# Altium schematic symbol library relays.SchLib: 16 symbols
Pins are listed as number, name and electrical type; pins without a type are passive.

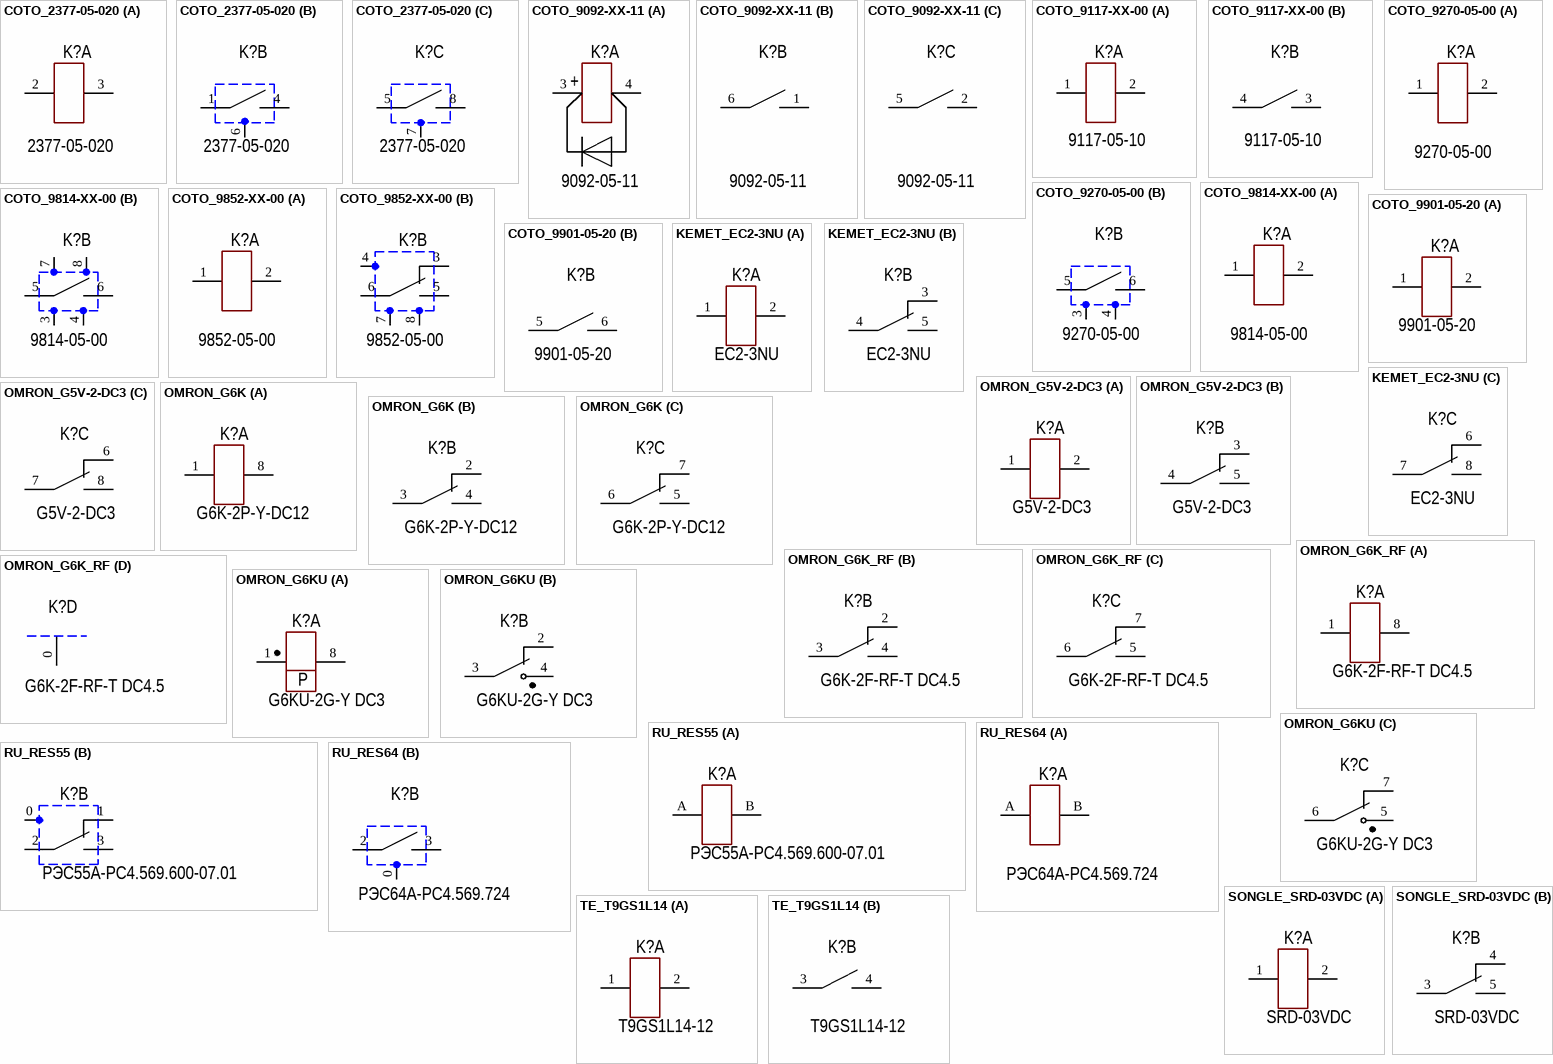
[diagram p0: symbols COTO_2377-05-020 to TE_T9GS1L14]

## COTO_2377-05-020
designator K?  PartNumber: 2377-05-020
0.5A/200VDC, DPST (2 Form A) Reed Relay, Coaxial Shield, 2370 Series; Manufacturer: Coto Technology; ValueManufacturerPartNumber: Reed Relays, 5VDC, 200VAC, 500mA, 2 Form A (DPST-NO), -40...+125°C; TypeRelay: Reed Relays; VoltageMax: 200VAC; VoltageControlCoil: 5VDC; MaxCurrent: 500mA; Package: 2 Form A (DPST-NO); HelpURL: https://eu.mouser.com/ProductDetail/Coto-Technology/2377-05-020?qs=zQ0xp2egA5ZJU1drR29UGg%3D%3D; Temperature: -40...+125°C
footprint COTO_2377-05-020 (8 Leads DPST (2 Form A) Reed Relay, Coaxial Shield, 2370 Series)
part A pins: 2, 3
part B pins: 1, 4, 6
part C pins: 5, 7, 8

## COTO_9092-XX-11
designator K?  PartNumber: 9092-05-11
SPDT (2 Form A (NO)) Reed Relay, For Stacking On 0.2Inches Pitch, 107 Serie; Manufacturer: Coto Technology; ValueManufacturerPartNumber: Electromechanics relay, 5VDC, 200VAC, 500mA, 2 Form A (DPST-NO), -20...+85°C; TypeRelay: Electromechanics relay; VoltageMax: 200VAC; VoltageControlCoil: 5VDC; MaxCurrent: 500mA; Package: 2 Form A (DPST-NO); HelpURL: https://eu.mouser.com/ProductDetail/Coto-Technology/9092-05-11?qs=%252B2t8avA00rvTKCknwKcV8A%3D%3D; Temperature: -20...+85°C
footprint COTO_9092 (6 Leads, SPDT (2 Form A) Reed Relays, Body 11.24mm x 3.81mm)
part A pins: 3, 4
part B pins: 1, 6
part C pins: 2, 5
part A text: +

## COTO_9117-XX-00
designator K?  PartNumber: 9117-05-10
SPDT (1 Form A (NO)) Reed Relay, 9117 Serie; Manufacturer: Coto Technology; ValueManufacturerPartNumber: Electromechanics relay, 5VDC, 100VAC, 250mA, 1 Form A (SPST-NO), -20...+85°C; TypeRelay: Electromechanics relay; VoltageMax: 100VAC; VoltageControlCoil: 5VDC; MaxCurrent: 250mA; Package: 1 Form A (SPST-NO); HelpURL: https://eu.mouser.com/ProductDetail/Coto-Technology/9117-05-10?qs=m0A%2FB3jbz5sLITcCWXRJJQ%3D%3D; Temperature: -20...+85°C
footprint COTO_9117 (4 Leads, SPDT (1 Form A) Reed Relays, Body 6.85mm x 3.81mm)
part A pins: 1, 2
part B pins: 3, 4

## COTO_9270-05-00
designator K?  PartNumber: 9270-05-00
0.5A/200VDC, SPST (1 Form A) Surface Mount Reed Relay, 50 Ohm Coaxial Shield, 2370 Series; Manufacturer: Coto Technology; ValueManufacturerPartNumber: Electromechanics relay, 5VDC, 200VAC, 500mA, 1 Form A (SPST-NO), -40...+125°C; TypeRelay: Electromechanics relay; VoltageMax: 200VAC; VoltageControlCoil: 5VDC; MaxCurrent: 500mA; Package: 1 Form A (SPST-NO); HelpURL: https://eu.mouser.com/ProductDetail/Coto-Technology/9270-05-00?qs=UCP3u9vqPhGs%252BbqLobyNjQ%3D%3D; Temperature: -40...+125°C
footprint COTO_9270-05-00 (Surface Mount SPST Reed Relay, Gull Wing Lead Style, 9270 Series)
part A pins: 1, 2
part B pins: 3, 4, 5, 6

## COTO_9814-XX-00
designator K?  PartNumber: 9814-05-00
SMD SPST Reed Relay  (J-Lead Version); Manufacturer: Coto Technology; ValueManufacturerPartNumber: Electromechanics relay, 5VDC, 100VAC, 250mA, 1 Form A (SPST-NO), -20...+85°C; TypeRelay: Electromechanics relay; VoltageMax: 100VAC; VoltageControlCoil: 5VDC; MaxCurrent: 250mA; Package: 1 Form A (SPST-NO); HelpURL: https://eu.mouser.com/ProductDetail/Coto-Technology/9814-05-00?qs=%252B2t8avA00rveEvUcfOyPJA%3D%3D; Temperature: -20...+85°C
footprint COTO_9814-05-00 (Surface Mount SPST Reed Relay, Gull Wing Lead Style, 9814 Series)
footprint COTO_9800 (9800 Serie SMD Reed Relay,  J-Lead Style, COTO 9814 & 9852 Model)
part A pins: 1, 2
part B pins: 3, 4, 5, 6, 7, 8

## COTO_9852-XX-00
designator K?  PartNumber: 9852-05-00
SMD SPDT Reed Relay  (J-Lead Version); Manufacturer: Coto Technology; ValueManufacturerPartNumber: Electromechanics relay, 5VDC, 30VAC, 100mA, 1 Form C (SPDT-NO, NC), -20...+85°C; TypeRelay: Electromechanics relay; VoltageMax: 30VAC; VoltageControlCoil: 5VDC; MaxCurrent: 100mA; Package: 1 Form C (SPDT-NO, NC); HelpURL: https://eu.mouser.com/ProductDetail/Coto-Technology/9852-05-00?qs=%252B2t8avA00rvq5dr0fdtz%252BQ%3D%3D; Temperature: -20...+85°C
footprint COTO_9852-05-00 (Surface Mount SPDT Reed Relay, Gull Wing Lead Style, 9852 Series)
footprint COTO_9800 (9800 Serie SMD Reed Relay,  J-Lead Style, COTO 9814 & 9852 Model)
part A pins: 1, 2
part B pins: 3, 4, 5, 6, 7, 8

## COTO_9901-05-20
designator K?  PartNumber: 9901-05-20
SMD SPST Reed Relay  (J-Lead Version); Manufacturer: Coto Technology; ValueManufacturerPartNumber: Electromechanics relay, 5VDC, 100VAC, 250mA, 1 Form A (SPST-NO), -20...+85°C; TypeRelay: Electromechanics relay; VoltageMax: 100VAC; VoltageControlCoil: 5VDC; MaxCurrent: 250mA; Package: 1 Form A (SPST-NO); HelpURL: https://eu.mouser.com/ProductDetail/Coto-Technology/9901-05-20?qs=FoJTTr54RLQl33atgr73JA%3D%3D; Temperature: -20...+85°C
footprint COTO_9901-05-20 (SMD Reed Relay,  J-Lead Style, COTO 9900 Series)
part A pins: 1, 2
part B pins: 5, 6

## KEMET_EC2-3NU
designator K?  PartNumber: EC2-3NU
Manufacturer: KEMET; ValueManufacturerPartNumber: Electromechanics relay, 3VDC, 250VAC, 2A, 2NO+2NC, -40...+85°C; TypeRelay: Electromechanics relay; VoltageMax: 250VAC; VoltageControlCoil: 3VDC; MaxCurrent: 2A; Package: 2NO+2NC; HelpURL: https://www.digikey.com/products/en?keywords=EC2-3NU; Temperature: -40...+85°C
footprint KEMET_EC2-3NU
part A pins: 1, 2
part B pins: 3, 4, 5
part C pins: 6, 7, 8

## OMRON_G5V-2-DC3
designator K?  PartNumber: G5V-2-DC3
Manufacturer: Omron; ValueManufacturerPartNumber: Electromechanics relay, 3VDC, 125VAC, 2A, 2NO+2NC, -40...+85°C; TypeRelay: Electromechanics relay; VoltageMax: 125VAC; VoltageControlCoil: 3VDC; MaxCurrent: 2A; Package: 2NO+2NC; HelpURL: https://www.digikey.com/product-detail/en/omron-electronics-inc-emc-div/G5V-2-DC3/Z2185-ND/369042; Temperature: -40...+85°C
footprint OMRON_G5V (Omron G5V relay)
part A pins: 1, 2
part B pins: 3, 4, 5
part C pins: 6, 7, 8

## OMRON_G6K
designator K?  PartNumber: G6K-2P-Y-DC12
DPDT Subminiature Relay, G6K Series; Manufacturer: Omron; ValueManufacturerPartNumber: Low Profile Relays, 12VDC, 125VAC, 1A, 2 Form C (DPDT-NO, NC), -40...+85°C; TypeRelay: Low Profile Relays; VoltageMax: 125VAC; VoltageControlCoil: 12VDC; MaxCurrent: 1A; Package: 2 Form C (DPDT-NO, NC); HelpURL: https://www.mouser.com/ProductDetail/Omron-Electronics/G6K-2P-Y-DC12?qs=sGAEpiMZZMsqIr59i2oRcl3xsl2Wjx5s12yvavvgpDo%3D; Temperature: -40...+85°C
footprint OMRON_G6K-2F (SMD Relay,  Body 10.2mm x 6.7mm, OMRON_G6K-2F)
footprint OMRON_G6K-2G-Y (SMD Relay,  Body 10.2mm x 6.7mm, (Inside-L Surface Mounting Terminal)OMRON_G6K-2F)
footprint OMRON_G6K-2P-Y (THT Relay,  Body 10.2mm x 6.5mm, OMRON_G6K-2P)
part A pins: 1, 8
part B pins: 2, 3, 4
part C pins: 5, 6, 7

## OMRON_G6K_RF
designator K?  PartNumber: G6K-2F-RF-T DC4.5
DPDT Subminiature Relay, G6K-RF Series; Manufacturer: Omron; ValueManufacturerPartNumber: High Frequency / RF Relays, 4.5VDC, 125VAC, 1A,  3GHz, 0.2dB, 2 Form C (DPDT-NO, NC), -40...+85°C; TypeRelay: High Frequency / RF Relays; VoltageMax: 125VAC; VoltageControlCoil: 4.5VDC; MaxCurrent: 1A; Frequency: 3GHz; InsertionLoss: 0.2dB; Package: 2 Form C (DPDT-NO, NC); HelpURL: https://www.mouser.com/ProductDetail/Omron-Electronics/G6K-2F-RF-T-DC4.5?qs=bR9%2Fh8%2FHa7SYqEZPDV9ldw%3D%3D; Temperature: -40...+85°C
footprint OMRON_G6K-2F-RF (SMD Relay,  Body 10.3mm x 6.9mm, OMRON G6KU-2F-RF)
footprint OMRON_G6K-2F-RF-T (SMD Relay,  Body 10.7mm x 6.9mm, OMRON G6KU-2F-RF-T)
footprint OMRON_G6KU-2F-RF (SMD Relay,  Body 10.3mm x 6.9mm, OMRON G6KU-2F-RF)
part A pins: 1, 8
part B pins: 2, 3, 4
part C pins: 5, 6, 7
part D pins: 0

## OMRON_G6KU
designator K?  PartNumber: G6KU-2G-Y DC3
DPDT Subminiature Relay, G6KU Series; Manufacturer: Omron; ValueManufacturerPartNumber: Low Profile Relays, 3VDC, 125VAC, 1A, 2 Form C (DPDT-NO, NC) Latching, -40...+85°C; TypeRelay: Low Profile Relays; VoltageMax: 125VAC; VoltageControlCoil: 3VDC; MaxCurrent: 1A; Package: 2 Form C (DPDT-NO, NC) Latching; HelpURL: https://eu.mouser.com/ProductDetail/Omron-Electronics/G6KU-2G-Y-DC3?qs=sGAEpiMZZMtGt%252Bn33CgIP2ptscmC2Psx69NI3UmWFME%3D; Temperature: -40...+85°C
footprint OMRON_G6KU-2F-Y (SMD Relay,  Body 10.2mm x 6.7mm, OMRON_G6KU-2F-Y)
footprint OMRON_G6KU-2G-Y (SMD Relay,  Body 10.2mm x 6.7mm, (Inside-L Surface Mounting Terminal)OMRON_G6KU-2F)
part A pins: 1, 8
part B pins: 2, 3, 4
part C pins: 5, 6, 7
part A text: P

## RU_RES55
designator K?  PartNumber: РЭС55А-РС4.569.600-07.01
Manufacturer: SKTB RT; ValueManufacturerPartNumber: Reed Relays, 6VDC, 6...36VAC, 0,01...0,5A, 1 Form C (SPDT-NO, NC), -60...+85°C; TypeRelay: Reed Relays; VoltageMax: 6...36VAC; VoltageControlCoil: 6VDC; MaxCurrent: 0,01...0,5A; Package: 1 Form C (SPDT-NO, NC); HelpURL: https://relay-start.ru/products/rele1/res55/; Temperature: -60...+85°C
footprint RU_RES55A (6 Leads SPDT (1 Form C) Reed Relay)
footprint RU_RES55B (6 Leads SPDT (1 Form C) Reed Relay)
part A pins: A, B
part B pins: 0, 1, 2, 3

## RU_RES64
designator K?  PartNumber: РЭС64А-РС4.569.724
SMD SPST Reed Relay  (J-Lead Version); Manufacturer: Elektropribor; ValueManufacturerPartNumber: Reed Relays, 5VDC, 30VAC, 0.2A, 1 Form A (SPST-NO), -60...+85°C; TypeRelay: Reed Relays; VoltageMax: 30VAC; VoltageControlCoil: 5VDC; MaxCurrent: 0.2A; Package: 1 Form A (SPST-NO); HelpURL: https://elpri-rele.ru/content/%D1%80%D1%8D%D1%8164; Temperature: -60...+85°C
footprint RU_RES64A (5 Leads SPST (1 Form A) Reed Relay)
footprint RU_RES64B (5 Leads SPST (1 Form A) Reed Relay)
part A pins: A, B
part B pins: 0, 2, 3

## SONGLE_SRD-03VDC
designator K?  PartNumber: SRD-03VDC
Manufacturer: Ningbo Songle; ValueManufacturerPartNumber: Electromechanics relay, 3VDC, 250VAC, 10A, 1NO, -40...+85°C; TypeRelay: Electromechanics relay; VoltageMax: 250VAC; VoltageControlCoil: 3VDC; MaxCurrent: 10A; Package: 1NO; HelpURL: https://lcsc.com/product-detail/Relays_SRD-03VDC-SL-C_C24585.html; Temperature: -40...+85°C
footprint SONGLE_SRD-03VDC
part A pins: 1, 2
part B pins: 3, 4, 5

## TE_T9GS1L14
designator K?  PartNumber: T9GS1L14-12
Manufacturer: TE Connectivity; ValueManufacturerPartNumber: Electromechanics relay, 12VDC, 480VAC, 30A, 1NO, -40...+85°C; TypeRelay: Electromechanics relay; VoltageMax: 480VAC; VoltageControlCoil: 12VDC; MaxCurrent: 30A; Package: 1NO; HelpURL: https://www.digikey.com/products/en?keywords=T9GS1L14-12; Temperature: -40...+85°C
footprint TE_T9GS1
part A pins: 1, 2
part B pins: 3, 4